# EAGLE library part 2X24HEADER (library vulcan-1)
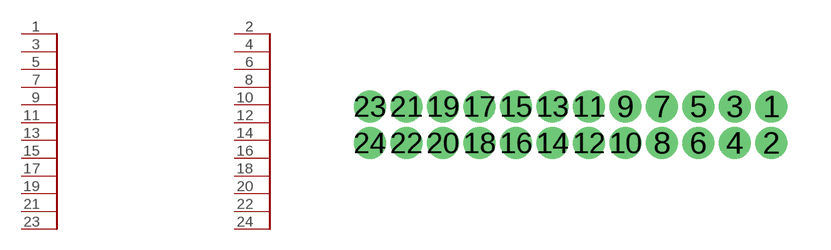
[diagram p6: symbol with the pads of 1.27MM2X12; footprint 1.27MM2X12]

Designator prefix -

## 2X24HEADER  [1.27MM2X12]
1  P$1
2  P$2
3  P$3
4  P$4
5  P$5
6  P$6
7  P$7
8  P$8
9  P$9
10  P$10
11  P$11
12  P$12
13  P$13
14  P$14
15  P$15
16  P$16
17  P$17
18  P$18
19  P$19
20  P$20
21  P$21
22  P$22
23  P$23
24  P$24

## Footprint 1.27MM2X12 (pad centres in mm)
drill 0.6: 1 7.62,1.27; 2 7.62,0; 3 6.35,1.27; 4 6.35,0; 5 5.08,1.27; 6 5.08,0; 7 3.81,1.27; 8 3.81,0; 9 2.54,1.27; 10 2.54,0; 11 1.27,1.27; 12 1.27,0; 13 0,1.27; 14 0,0; 15 -1.27,1.27; 16 -1.27,0; 17 -2.54,1.27; 18 -2.54,0; 19 -3.81,1.27; 20 -3.81,0; 21 -5.08,1.27; 22 -5.08,0; 23 -6.35,1.27; 24 -6.35,0